# Altium footprint library PcbLibPadometer.PcbLib: 18 footprints (part 2 of 2)
Each footprint in its own frame and in the unit in brackets; x right, y up, seen from the top. Pads: shape width x height; smd on the part's side, far side on the other; paste and mask are expansions set on the pad; w line width, h text height; cw(c..) or ccw(c..) is an arc to the next point about the centre after c.
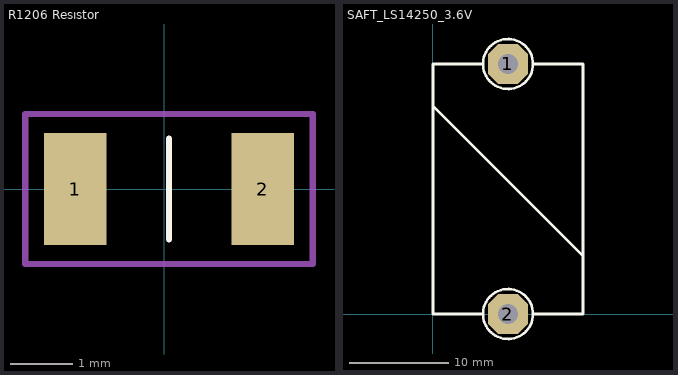
[diagram p1: the footprints below, top view; thin cyan lines are the x and y axes]

## R1206 Resıstor [mm]
pads (2):
  rect 1x1.8 smd mask+0.05: 1(-1.425,0) 2(1.575,0)
Top Overlay:
  lines w0.1: 0.075,-0.805 0.075,0.805
Mechanical 3:
  lines w0.1: -2.225,-1.2 2.375,-1.2 2.375,1.2 -2.225,1.2 -2.225,-1.2
3D body "1206RES.step": height 0.55, standoff 0, extent -1.525,-0.805 1.675,0.805

## SAFT_LS14250_3.6V [mm]
pads (2):
  oct 4x4 hole 2: 1(7.5,25) 2(7.5,0)
Top Overlay:
  circle w0.254: c7.5,25 r2.5
  circle w0.254: c7.5,0 r2.5
  lines w0.254: 0,21.3 0,20.8 14.9,5.9 ; 0,21.5 0,25 ; 4.9,25 0,25 ; 5,0 0,0 0,25 ; 10,0 15,0 15,25 10,25
3D body "3DPIL.STEP": height 15.5, standoff -3, extent 0.1,-0.3 15.1,25.3